# EAGLE library part ADG719 (library kblom)
2:1 Mux/SPDT Switch Applications Battery-powered systems Communication systems Sample-and-hold systems Audio signal routing Video switching Mechanical reed relay replacement source <http://www.analog.com/static/imported-files/data_sheets/ADG719.pdf> switch mux
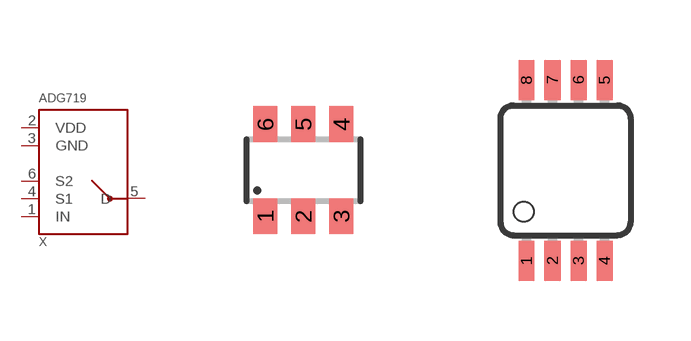
[diagram p4: symbol with the pads of SOT23-6; footprints SOT23-6, MSOP8]

Designator prefix X

## ADG719BRT (FARNELL: 1333248; FARNELL2: 1838893)  [SOT23-6]
1  IN
2  VDD  pwr
3  GND  pwr
4  S1
5  D
6  S2

## ADG719BRM (FARNELL: 9425578)  [MSOP8]
1  D
2  S1
3  GND  pwr
4  VDD  pwr
6  IN
8  S2

## Footprint SOT23-6 (pad centres in mm)
Small Outline Transistor 6 lead
smd 0.6 x 0.9: 1 -0.95,-1.15; 2 0,-1.15; 3 0.95,-1.15; 4 0.95,1.15; 5 0,1.15; 6 -0.95,1.15

## Footprint MSOP8 (pad centres in mm)
8-Lead micro SO (RM-8) Source: http://www.analog.com/UploadedFiles/Data_Sheets/703465986AD8611_2_0.pdf
smd 0.4 x 1: 1 -0.976,-2.263; 2 -0.326,-2.263; 3 0.324,-2.263; 4 0.974,-2.263; 5 0.974,2.262; 6 0.324,2.262; 7 -0.326,2.262; 8 -0.976,2.262